# Altium schematic symbol library Resistor.SchLib: 6 symbols
Pins are listed as number, name and electrical type; pins without a type are passive.

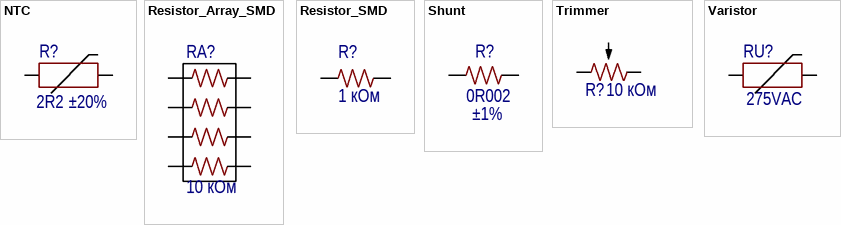
[diagram p0: symbols NTC to Varistor]

## NTC
designator R?  value 2R2  Tolerance: ±20%
Manufacturer: Epcos; PartNumber: B57237S229M54; ValueManufacturerPartNumber: NTC resistor, 2R2, ±20%, pitch 7.5mm, 7A, -55...+125°C; TypeResistor: NTC resistor; MaxCurrent: 7A; Package: pitch 7.5mm; HelpURL: https://www.digikey.com/product-detail/en/epcos-tdk/B57237S229M54/495-76635-1-ND/8126375; Temperature: -55...+125°C
footprint RES: 0201
footprint RES: 0402
footprint RES: 0603
footprint RES: 0805
footprint RES: 1206
footprint RES: B57237 (NTC)
pins: 1, 2

## Resistor_Array_SMD
designator RA?  Значение: 10 кОм
Производитель: YAGEO; Типоразмер: 0603_x4; ТипКомпонента: Резисторная сборка; Точность: ±5%; УникальныйНомер: YC164-JR-0722RL; Ссылка: ***
footprint RES_ARRAY: SMD 0603x4
pins: 1, 2, 3, 4, 5, 6, 7, 8
1 alternate drawing of the same symbol

## Resistor_SMD
designator R?  Значение: 1 кОм
Производитель: YAGEO; УникальныйНомер: RC0201JR-07100RL; Типоразмер: 0201; Ссылка: ***; ТипКомпонента: Резистор SMD; Точность: ±5%
footprint RES: 0201
footprint RES: 0402
footprint RES: 0603
footprint RES: 0805
footprint RES: 1206
footprint RES: 1210
footprint RES: 2010
footprint RES: 2512
pins: 1, 2
1 alternate drawing of the same symbol

## Shunt
designator R?  Точность: ±1%  Значение: 0R002
Производитель: Bourns; УникальныйНомер: CSS2H-2512K-2L00F; Типоразмер: 2512; Ссылка: ***; ТипКомпонента: Шунт
footprint RES: CSS2H (2512)
pins: 1, 2
1 alternate drawing of the same symbol

## Trimmer
designator R?  Значение: 10 кОм
Производитель: Bourns; УникальныйНомер: 3296W-1-103LF; Типоразмер: 3296W; Ссылка: ***; ТипКомпонента: Resistor film; Точность: ±10%
footprint RES: 3296W
footprint RES: 3314G
footprint RES: 3362P
footprint RES: RM-065
pins: 1, 2, 3
1 alternate drawing of the same symbol

## Varistor
designator RU?  MaxVoltage: 275VAC
Manufacturer: Bourns; PartNumber: MOV-07D431KTR; ValueManufacturerPartNumber: Varistor, 275VAC, pitch 7mm, -55...+125°C; TypeResistor: Varistor; Package: pitch 7mm; HelpURL: https://www.digikey.com/product-detail/en/bourns-inc/MOV-07D431KTR/MOV-07D431KTRCT-ND/4318145; Temperature: -55...+125°C
footprint RES: TMOV20
footprint RES: MOV-07D431K
pins: 1, 2